# Altium footprint library Stm32_Relay.PcbLib: 1 footprints
Each footprint in its own frame and in the unit in brackets; x right, y up, seen from the top. Pads: shape width x height; smd on the part's side, far side on the other; paste and mask are expansions set on the pad; w line width, h text height; cw(c..) or ccw(c..) is an arc to the next point about the centre after c.
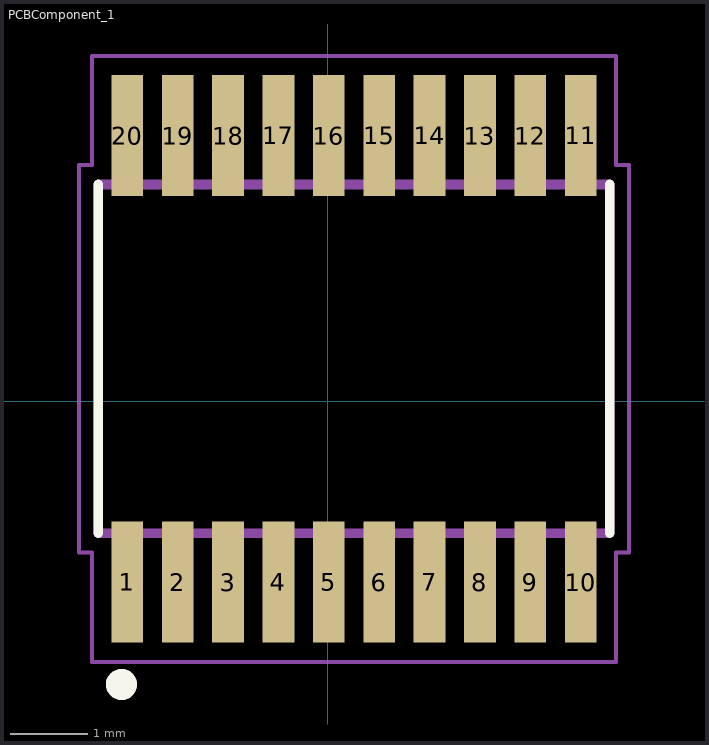
[diagram p0: the footprint, top view; thin cyan lines are the x and y axes]

## PCBComponent_1 [mm]
pads (20):
  rect 0.41x1.56 smd: 1(-2.585,-2.331) 2(-1.935,-2.331) 3(-1.285,-2.331) 4(-0.635,-2.331) 5(0.015,-2.331) 6(0.665,-2.331) 7(1.315,-2.331) 8(1.965,-2.331) 9(2.615,-2.331) 10(3.265,-2.331) 11(3.265,3.429) 12(2.615,3.429) 13(1.965,3.429) 14(1.315,3.429) 15(0.665,3.429) 16(0.015,3.429) 17(-0.635,3.429) 18(-1.285,3.429) 19(-1.935,3.429) 20(-2.585,3.429)
Top Overlay:
  circle w0.2: c-2.66,-3.651 r0.1
  lines w0.127: -2.96,-1.701 -2.96,2.799 ; 3.64,-1.701 3.64,2.799
Mechanical 13:
  circle w0.2: c-2.66,-3.651 r0.1
  lines w0.127: -2.96,-1.701 3.64,-1.701 3.64,2.799 -2.96,2.799 -2.96,-1.701
Mechanical 15:
  lines w0.05: -3.21,-1.951 -3.21,3.049 -3.04,3.049 -3.04,4.459 3.72,4.459 3.72,3.049 3.89,3.049 3.89,-1.951 3.72,-1.951 3.72,-3.361 -3.04,-3.361 -3.04,-1.951 -3.21,-1.951
3D body "STM32F030F4P6--3DModel-STEP-269445.STEP": height 1.18, standoff -0.02, extent -2.869,-2.565 3.631,3.835